# Altium footprint library Footprints.PcbLib: 33 footprints (part 1 of 3)
Each footprint in its own frame and in the unit in brackets; x right, y up, seen from the top. Pads: shape width x height; smd on the part's side, far side on the other; paste and mask are expansions set on the pad; w line width, h text height; cw(c..) or ccw(c..) is an arc to the next point about the centre after c.
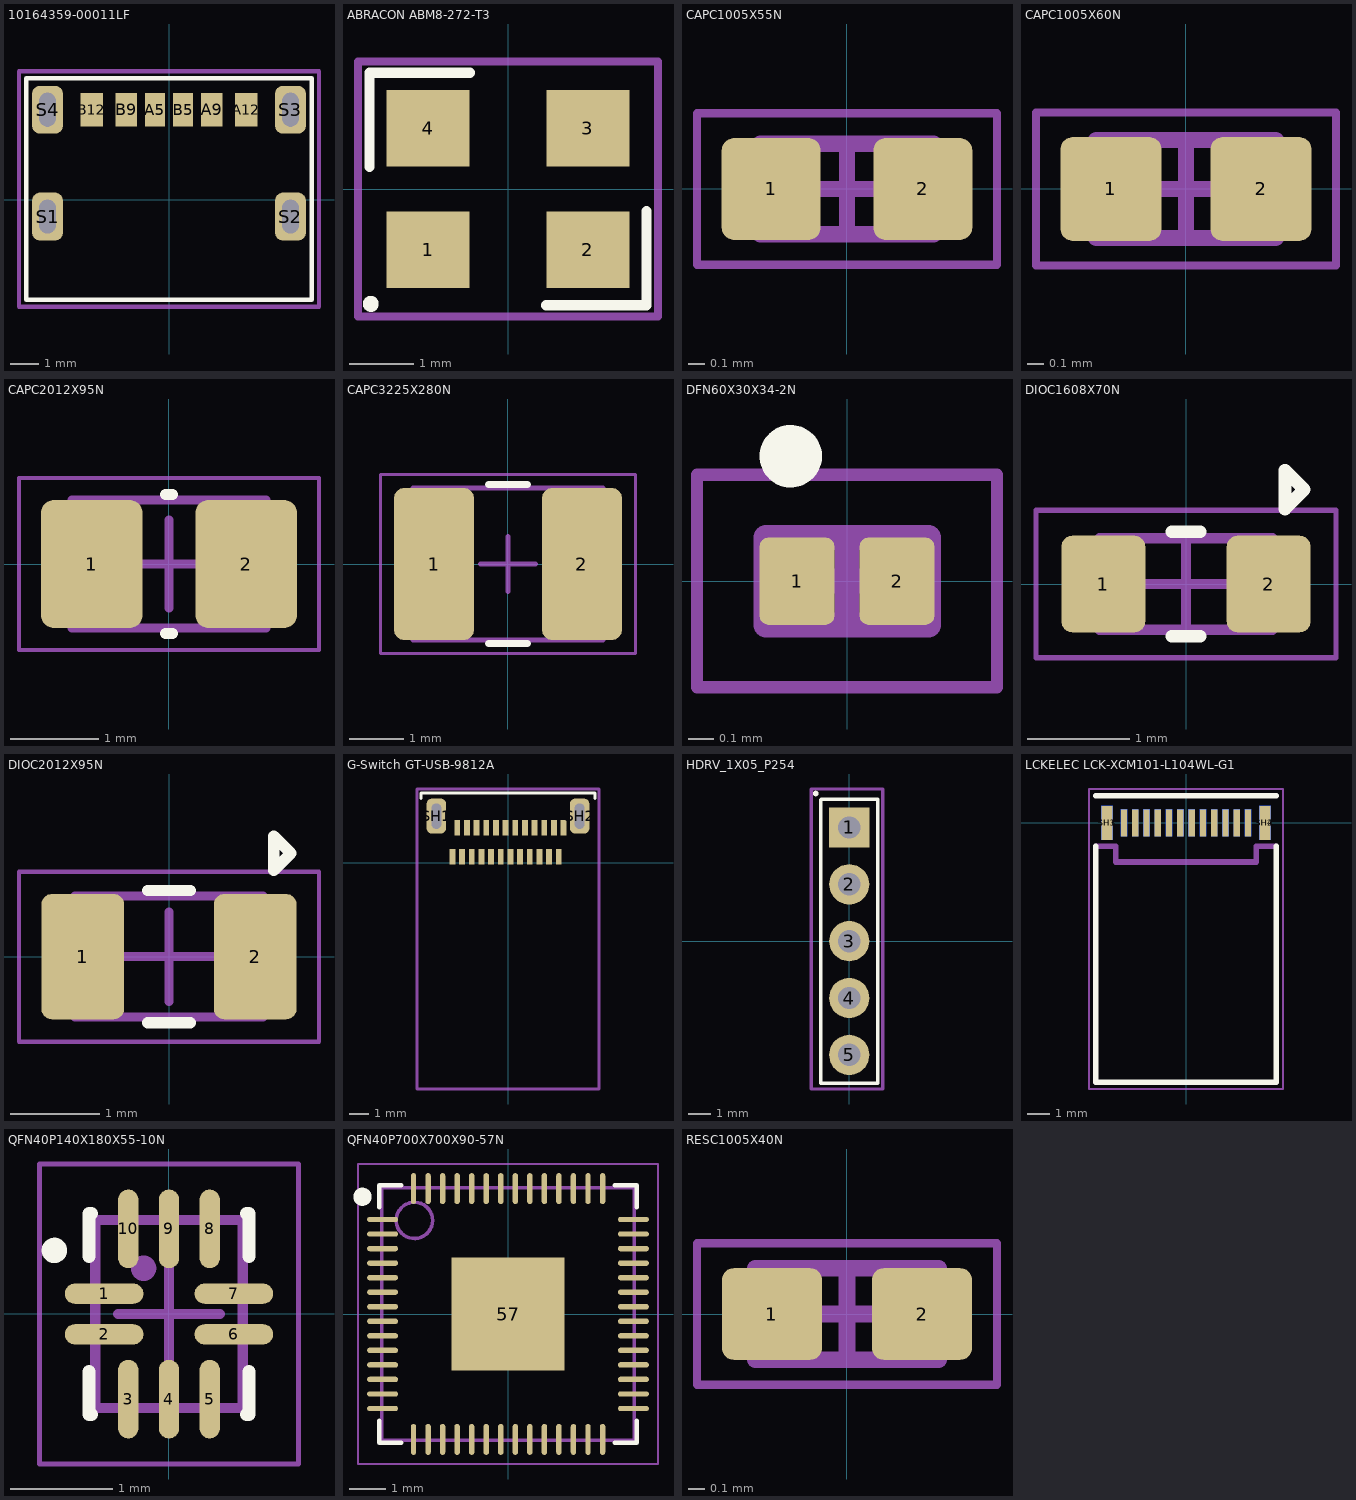
[diagram p0: the footprints below, top view; thin cyan lines are the x and y axes]

## 10164359-00011LF [mm]
pads (10):
  rect 0.7x1.2 smd: A5(-0.5,3.2) B5(0.5,3.2)
  rect 0.76x1.2 smd: A9(1.52,3.2) B9(-1.52,3.2)
  rect 0.8x1.2 smd: A12(2.75,3.2) B12(-2.75,3.2)
  rrect50% 1.1x1.7 hole 0.6 slot 1.2 at 90 deg: S1(-4.32,-0.6) S2(4.32,-0.6) S3(4.32,3.2) S4(-4.32,3.2)
Top Overlay:
  lines w0.15: -5.08,-3.556 5.08,-3.556 5.08,4.318 -5.08,4.318 -5.08,-3.556
Top Designator:
  text ".Designator" at 0,0 h1.52
Top Courtyard:
  lines w0.15: -5.334,-3.81 5.334,-3.81 5.334,4.572 -5.334,4.572 -5.334,-3.81
3D body "10164359-00011LF.STEP": height 3.27, standoff -0.89, extent -4.47,-3.196 4.47,3.704

## _TEMPLATE_FOOTPRINT [mm]

## ABRACON ABM8-272-T3 [mm]
pads (4):
  rect 1.3x1.2 smd: 1(-1.25,-0.95) 2(1.25,-0.95) 3(1.25,0.95) 4(-1.25,0.95)
Top Overlay:
  circle w0.125: c-2.15,-1.8 r0.062
  lines w0.16: -2.17,0.35 -2.17,1.82 -0.6,1.82 ; 0.6,-1.82 2.17,-1.82 2.17,-0.35
Top Designator:
  text ".Designator" at 0,0 h1.52
Top Courtyard:
  lines w0.127: -2.35,-2 -2.35,2 2.35,2 2.35,-2 -2.35,-2

## CAPC1005X55N [mm] "Chip Capacitor, 2-Leads, Body 1.00x0.50mm, IPC Medium Density"
height 0.55
pads (2):
  rrect25% 0.6x0.62 smd: 1(-0.46,0) 2(0.46,0)
Top Assembly:
  lines w0.1: -0.525,-0.275 -0.525,0.275 0.525,0.275 0.525,-0.275 -0.525,-0.275
Top Designator:
  text ".Designator" at 0,0.188 h1
Top Courtyard:
  lines w0.05: -0.91,-0.46 -0.91,0.46 0.91,0.46 0.91,-0.46 -0.91,-0.46
Top Component Center:
  lines w0.1: -0.275,0 0.275,0 ; 0,-0.275 0,0.275
3D body: height 0.55, standoff 0, extent -0.25,-0.25 0.25,0.25
3D body: height 0.55, standoff 0, extent -0.5,-0.25 -0.25,0.25
3D body: height 0.55, standoff 0, extent 0.25,-0.25 0.5,0.25

## CAPC1005X60N [mm] "Chip Capacitor, 2-Leads, Body 1.00x0.50mm, IPC Medium Density"
height 0.6
pads (2):
  rrect25% 0.62x0.64 smd: 1(-0.46,0) 2(0.46,0)
Top Assembly:
  lines w0.1: -0.55,-0.3 0.55,-0.3 0.55,0.3 -0.55,0.3 -0.55,-0.3
Top Designator:
  text ".Designator" at 0,0.188 h1
Top Courtyard:
  lines w0.05: -0.92,-0.47 0.92,-0.47 0.92,0.47 -0.92,0.47 -0.92,-0.47
Top Component Center:
  lines w0.1: -0.3,0 0.3,0 ; 0,-0.3 0,0.3
3D body: height 0.6, standoff 0, extent 0.25,-0.25 0.5,0.25
3D body: height 0.6, standoff 0, extent -0.5,-0.25 -0.25,0.25
3D body: height 0.6, standoff 0, extent -0.25,-0.25 0.25,0.25

## CAPC2012X95N [mm] "Chip Capacitor, 2-Leads, Body 2.00x1.25mm, IPC Medium Density"
height 0.95
pads (2):
  rrect25% 1.15x1.45 smd: 1(-0.875,0) 2(0.875,0)
Top Overlay:
  lines w0.127: -0.036,-0.788 0.036,-0.788 ; -0.036,0.788 0.036,0.788
Top Assembly:
  lines w0.1: -1.1,-0.725 1.1,-0.725 1.1,0.725 -1.1,0.725 -1.1,-0.725
Top Designator:
  text ".Designator" at 0,0.188 h1
Top Courtyard:
  lines w0.05: -1.7,-0.975 1.7,-0.975 1.7,0.975 -1.7,0.975 -1.7,-0.975
Top Component Center:
  lines w0.1: -0.5,0 0.5,0 ; 0,-0.5 0,0.5
3D body: height 0.95, standoff 0, extent 0.5,-0.625 1,0.625
3D body: height 0.95, standoff 0, extent -1,-0.625 -0.5,0.625
3D body: height 0.95, standoff 0, extent -0.5,-0.625 0.5,0.625

## CAPC3225X280N [mm] "Chip Capacitor, 2-Leads, Body 3.20x2.50mm, IPC Medium Density"
height 2.8
pads (2):
  rrect25% 1.475x2.8 smd: 1(-1.362,0) 2(1.363,0)
Top Overlay:
  lines w0.127: -0.362,-1.463 0.362,-1.463 ; -0.362,1.463 0.362,1.463
Top Assembly:
  lines w0.1: -1.75,-1.4 -1.75,1.4 1.75,1.4 1.75,-1.4 -1.75,-1.4
Top Designator:
  text ".Designator" at 0,0.188 h1
Top Courtyard:
  lines w0.05: -2.35,-1.65 -2.35,1.65 2.35,1.65 2.35,-1.65 -2.35,-1.65
Top Component Center:
  lines w0.1: -0.5,0 0.5,0 ; 0,-0.5 0,0.5
3D body: height 2.8, standoff 0, extent -0.85,-1.25 0.85,1.25
3D body: height 2.8, standoff 0, extent -1.6,-1.25 -0.85,1.25
3D body: height 2.8, standoff 0, extent 0.85,-1.25 1.6,1.25

## DFN60X30X34-2N [mm] "DFN, 2-Leads, Body 0.60x0.30mm, Pitch 0.40mm, IPC Medium Density"
height 0.34
pads (2):
  rrect25% 0.3x0.35 smd: 1(-0.2,0) 2(0.2,0)
Top Overlay:
  circle w0.125: c-0.225,0.5 r0.062
Top Assembly:
  lines w0.1: -0.325,-0.175 0.325,-0.175 0.325,0.175 -0.325,0.175 -0.325,-0.175
Top Designator:
  text ".Designator" at 0,0.188 h1
Top Courtyard:
  lines w0.05: -0.6,-0.425 0.6,-0.425 0.6,0.425 -0.6,0.425 -0.6,-0.425
Top Component Center:
  lines w0.1: -0.175,0 0.175,0 ; 0,-0.175 0,0.175
3D body: height 0.34, standoff 0, extent -0.3,-0.15 0.3,0.15

## DIOC1608X70N [mm] "Chip Diode, 2-Leads, Body 1.60x0.80mm, IPC Medium Density"
height 0.7
pads (2):
  rrect25% 0.825x0.95 smd: 1(-0.813,0) 2(0.813,0)
Top Overlay:
  lines w0.127: -0.136,-0.513 0.136,-0.513 ; -0.136,0.513 0.136,0.513 ; 0.971,0.738 0.971,1.118 1.161,0.928 0.971,0.738
Top Assembly:
  rectangle: 0.621,-0.45 0.85,0.45
  lines w0.1: -0.85,-0.45 -0.85,0.45 0.85,0.45 0.85,-0.45 -0.85,-0.45
Top Designator:
  text ".Designator" at 0,0.188 h1
Top Courtyard:
  lines w0.05: -1.475,-0.725 -1.475,0.725 1.475,0.725 1.475,-0.725 -1.475,-0.725
Top Component Center:
  lines w0.1: -0.45,0 0.45,0 ; 0,-0.45 0,0.45
3D body: height 0.7, standoff 0, extent -0.5,-0.4 0.5,0.4
3D body: height 0.7, standoff 0, extent -0.8,-0.4 -0.5,0.4
3D body: height 0.7, standoff 0, extent 0.5,-0.4 0.8,0.4

## DIOC2012X95N [mm] "Chip Diode, 2-Leads, Body 2.00x1.25mm, IPC Medium Density"
height 0.95
pads (2):
  rrect25% 0.925x1.4 smd: 1(-0.962,0) 2(0.962,0)
Top Overlay:
  lines w0.127: -0.236,-0.738 0.236,-0.738 ; -0.236,0.738 0.236,0.738 ; 1.171,0.964 1.171,1.343 1.362,1.154 1.171,0.964
Top Assembly:
  rectangle: 0.768,-0.675 1.05,0.675
  lines w0.1: -1.05,-0.675 -1.05,0.675 1.05,0.675 1.05,-0.675 -1.05,-0.675
Top Designator:
  text ".Designator" at 0,0.188 h1
Top Courtyard:
  lines w0.05: -1.675,-0.95 -1.675,0.95 1.675,0.95 1.675,-0.95 -1.675,-0.95
Top Component Center:
  lines w0.1: -0.5,0 0.5,0 ; 0,-0.5 0,0.5
3D body: height 0.95, standoff 0, extent -0.6,-0.625 0.6,0.625
3D body: height 0.95, standoff 0, extent -1,-0.625 -0.6,0.625
3D body: height 0.95, standoff 0, extent 0.6,-0.625 1,0.625

## G-Switch GT-USB-9812A [mm]
pads (26):
  rect 0.3x0.8 smd: A1(2.875,1.8) A2(2.375,1.8) A3(1.875,1.8) A4(1.375,1.8) A5(0.875,1.8) A6(0.375,1.8) A7(-0.125,1.8) A8(-0.625,1.8) A9(-1.125,1.8) A10(-1.625,1.8) A11(-2.125,1.8) A12(-2.625,1.8) B1(-2.875,0.3) B2(-2.375,0.3) B3(-1.875,0.3) B4(-1.375,0.3) B5(-0.875,0.3) B6(-0.375,0.3) B7(0.125,0.3) B8(0.625,0.3) B9(1.125,0.3) B10(1.625,0.3) B11(2.125,0.3) B12(2.625,0.3)
  rrect50% 1x1.8 hole 0.5 slot 1.3 at 90 deg: SH1(-3.7,2.4) SH2(3.7,2.4)
Top Overlay:
  lines w0.16: -4.5,3.3 -4.5,3.6 4.5,3.6 4.5,3.3
Top Designator:
  text ".Designator" at 0,0 h1.52
Top Courtyard:
  lines w0.16: -4.7,-11.7 -4.7,3.8 4.7,3.8 4.7,-11.7 -4.7,-11.7

## HDRV_1X05_P254 [mm]
pads (5):
  rect 1.8x1.8 hole 1: 1(0,5.08)
  round 1.8 hole 1: 2(0,2.54) 3(0,0) 4(0,-2.54) 5(0,-5.08)
Top Overlay:
  circle w0.125: c-1.5,6.6 r0.062
  lines w0.15: -1.27,-6.35 -1.27,6.33 -1.25,6.35 1.27,6.35 1.27,-6.35 -1.27,-6.35
Top Designator:
  text ".Designator" at 0,0 h1.52
Top Courtyard:
  lines w0.15: -1.7,-6.604 -1.7,6.8 1.5,6.8 1.5,-6.604 -1.7,-6.604
3D body "61300511121.stp": height 8.55, standoff -2.99, extent -1.27,-6.35 1.27,6.35

## LCKELEC LCK-XCM101-L104WL-G1 [mm]
pads (28):
  rect 0.28x1.2 smd: A1(2.75,0) A2(2.25,0) A3(1.75,0) A4(1.25,0) A5(0.75,0) A6(0.25,0) A7(-0.25,0) A8(-0.75,0) A9(-1.25,0) A10(-1.75,0) A11(-2.25,0) A12(-2.75,0)
  rect 0.28x1.2 smd far side: B1(-2.75,0) B2(-2.25,0) B3(-1.75,0) B4(-1.25,0) B5(-0.75,0) B6(-0.25,0) B7(0.25,0) B8(0.75,0) B9(1.25,0) B10(1.75,0) B11(2.25,0) B12(2.75,0)
  rect 0.5x1.5 smd: SH1(-3.5,0) SH2(3.5,0)
  rect 0.5x1.5 smd far side: SH3(-3.5,0) SH4(3.5,0)
Top Overlay:
  lines w0.254: -4,-1.04 -4,-11.5 4,-11.5 4,-1.04 ; -4,1.2 4,1.2
Mechanical 1:
  lines w0.254: -4,-1.04 -3.12,-1.04 -3.12,-1.74 3.12,-1.74 3.12,-1.04 4,-1.04
Top Designator:
  text ".Designator" at 0,-0.075 h1.52
Top Courtyard:
  lines w0.1: -4.3,-11.8 -4.3,1.5 4.3,1.5 4.3,-11.8 -4.3,-11.8

## QFN40P140X180X55-10N [mm] "QFN, 10-Leads, Body 1.40x1.80mm, Pitch 0.40mm, IPC Medium Density"
height 0.55
pads (10):
  oval 0.775x0.2 smd: 1(-0.637,0.2) 2(-0.637,-0.2) 6(0.638,-0.2) 7(0.638,0.2)
  oval 0.2x0.775 smd: 3(-0.4,-0.838) 4(0,-0.838) 5(0.4,-0.838) 8(0.4,0.837) 9(0,0.837) 10(-0.4,0.837)
Top Overlay:
  circle w0.125: c-1.127,0.625 r0.062
  lines w0.127: -0.788,-0.564 -0.788,-0.989 -0.763,-0.989 ; -0.788,0.563 -0.788,0.988 -0.763,0.988 ; 0.764,-0.989 0.788,-0.989 0.788,-0.564 ; 0.764,0.988 0.788,0.988 0.788,0.563
Top Assembly:
  circle w0.125: c-0.25,0.45 r0.062
  lines w0.1: -0.725,-0.925 0.725,-0.925 0.725,0.925 -0.725,0.925 -0.725,-0.925
Top Designator:
  text ".Designator" at 0,0.188 h1
Top Courtyard:
  lines w0.05: -1.275,-1.475 1.275,-1.475 1.275,1.475 -1.275,1.475 -1.275,-1.475
Top Component Center:
  lines w0.1: -0.5,0 0.5,0 ; 0,-0.5 0,0.5
3D body: height 0.55, standoff 0, extent -0.7,-0.9 0.7,0.9

## QFN40P700X700X90-57N [mm] "QFN, 56-Leads, Body 7.00x7.00mm, Pitch 0.40mm, Thermal Pad 3.10x3.10mm, IPC Medium Density"
height 0.9
pads (57):
  oval 0.85x0.15 smd: 1(-3.45,2.6) 2(-3.45,2.2) 3(-3.45,1.8) 4(-3.45,1.4) 5(-3.45,1) 6(-3.45,0.6) 7(-3.45,0.2) 8(-3.45,-0.2) 9(-3.45,-0.6) 10(-3.45,-1) 11(-3.45,-1.4) 12(-3.45,-1.8) 13(-3.45,-2.2) 14(-3.45,-2.6) 29(3.45,-2.6) 30(3.45,-2.2) 31(3.45,-1.8) 32(3.45,-1.4) 33(3.45,-1) 34(3.45,-0.6) 35(3.45,-0.2) 36(3.45,0.2) 37(3.45,0.6) 38(3.45,1) 39(3.45,1.4) 40(3.45,1.8) 41(3.45,2.2) 42(3.45,2.6)
  oval 0.15x0.85 smd: 15(-2.6,-3.45) 16(-2.2,-3.45) 17(-1.8,-3.45) 18(-1.4,-3.45) 19(-1,-3.45) 20(-0.6,-3.45) 21(-0.2,-3.45) 22(0.2,-3.45) 23(0.6,-3.45) 24(1,-3.45) 25(1.4,-3.45) 26(1.8,-3.45) 27(2.2,-3.45) 28(2.6,-3.45) 43(2.6,3.45) 44(2.2,3.45) 45(1.8,3.45) 46(1.4,3.45) 47(1,3.45) 48(0.6,3.45) 49(0.2,3.45) 50(-0.2,3.45) 51(-0.6,3.45) 52(-1,3.45) 53(-1.4,3.45) 54(-1.8,3.45) 55(-2.2,3.45) 56(-2.6,3.45)
  rect 3.1x3.1 smd paste-1.55: 57(0,0)
Top Overlay:
  circle w0.25: c-4.002,3.225 r0.125
  lines w0.127: -3.539,-2.938 -3.539,-3.538 -2.939,-3.538 ; -3.539,2.939 -3.539,3.539 -2.939,3.539 ; 2.938,-3.538 3.538,-3.538 3.538,-2.938 ; 2.938,3.539 3.538,3.539 3.538,2.939
Top Paste:
  rectangle: -1.35,0.1 -0.1,1.35
  rectangle: -1.35,-1.35 -0.1,-0.1
  rectangle: 0.1,0.1 1.35,1.35
  rectangle: 0.1,-1.35 1.35,-0.1
Top Assembly:
  circle w0.1: c-2.575,2.575 r0.5
  lines w0.1: -3.475,-3.475 -3.475,3.475 3.475,3.475 3.475,-3.475 -3.475,-3.475
Top Designator:
  text ".Designator" at 0,0.188 h1
Top Courtyard:
  lines w0.05: -4.125,-4.125 -4.125,4.125 4.125,4.125 4.125,-4.125 -4.125,-4.125
Top Component Center:
  lines w0.1: -0.5,0 0.5,0 ; 0,-0.5 0,0.5
3D body: height 0.9, standoff 0, extent -3.5,-3.5 3.5,3.5

## RESC1005X40N [mm] "Chip Resistor, 2-Leads, Body 1.00x0.50mm, IPC Medium Density"
height 0.4
pads (2):
  rrect25% 0.6x0.55 smd: 1(-0.45,0) 2(0.45,0)
Top Assembly:
  lines w0.1: -0.55,-0.275 0.55,-0.275 0.55,0.275 -0.55,0.275 -0.55,-0.275
Top Designator:
  text ".Designator" at 0,0.188 h1
Top Courtyard:
  lines w0.05: -0.9,-0.425 0.9,-0.425 0.9,0.425 -0.9,0.425 -0.9,-0.425
Top Component Center:
  lines w0.1: -0.275,0 0.275,0 ; 0,-0.275 0,0.275
3D body: height 0.4, standoff 0, extent 0.25,-0.25 0.5,0.25
3D body: height 0.4, standoff 0, extent -0.5,-0.25 -0.25,0.25
3D body: height 0.4, standoff 0, extent -0.25,-0.25 0.25,0.25